# EAGLE library part STM32F4 (library STM32F4-MODUL-WEACT)
STM32F401 MODULE FROM WEACT
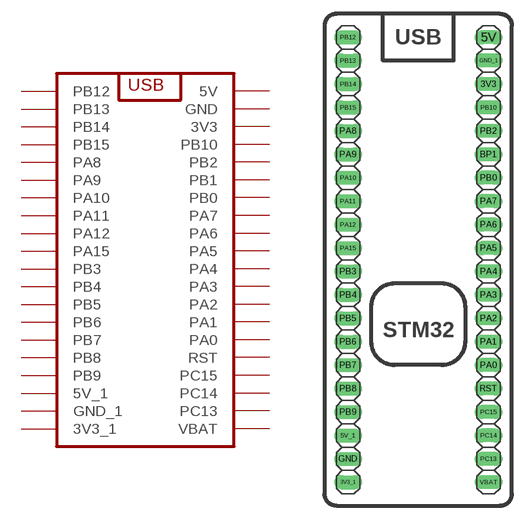
[diagram p0: symbol with the pads of STM32F4; footprint STM32F4]

Designator prefix JP

## STM32F4  [STM32F4]
3V3  3V3  pas
3V3_1  3V3_1  pas
5V  5V  pas
5V_1  5V_1  pas
BP1  PB1  pas
GND  GND_1  pas
GND_1  GND  pas
PA0  PA0  pas
PA1  PA1  pas
PA2  PA2  pas
PA3  PA3  pas
PA4  PA4  pas
PA5  PA5  pas
PA6  PA6  pas
PA7  PA7  pas
PA8  PA8  pas
PA9  PA9  pas
PA10  PA10  pas
PA11  PA11  pas
PA12  PA12  pas
PA15  PA15  pas
PB0  PB0  pas
PB2  PB2  pas
PB3  PB3  pas
PB4  PB4  pas
PB5  PB5  pas
PB6  PB6  pas
PB7  PB7  pas
PB8  PB8  pas
PB9  PB9  pas
PB10  PB10  pas
PB12  PB12  pas
PB13  PB13  pas
PB14  PB14  pas
PB15  PB15  pas
PC13  PC13  pas
PC14  PC14  pas
PC15  PC15  pas
RST  RST  pas
VBAT  VBAT  pas

## Footprint STM32F4 (pad centres in mm)
PIN HEADER
drill 1.016 long: 3V3 -8.89,20.32; 3V3_1 -24.13,-22.86; 5V -8.89,25.4; 5V_1 -24.13,-17.78; BP1 -8.89,12.7; GND -24.13,-20.32; GND_1 -8.89,22.86; PA0 -8.89,-10.16; PA1 -8.89,-7.62; PA2 -8.89,-5.08; PA3 -8.89,-2.54; PA4 -8.89,0; PA5 -8.89,2.54; PA6 -8.89,5.08; PA7 -8.89,7.62; PA8 -24.13,15.24; PA9 -24.13,12.7; PA10 -24.13,10.16; PA11 -24.13,7.62; PA12 -24.13,5.08; PA15 -24.13,2.54; PB0 -8.89,10.16; PB2 -8.89,15.24; PB3 -24.13,0; PB4 -24.13,-2.54; PB5 -24.13,-5.08; PB6 -24.13,-7.62; PB7 -24.13,-10.16; PB8 -24.13,-12.7; PB9 -24.13,-15.24; PB10 -8.89,17.78; PB12 -24.13,25.4; PB13 -24.13,22.86; PB14 -24.13,20.32; PB15 -24.13,17.78; PC13 -8.89,-20.32; PC14 -8.89,-17.78; PC15 -8.89,-15.24; RST -8.89,-12.7; VBAT -8.89,-22.86